# EAGLE library part RPI2-HEADER (library KS Proto)
Device for Raspberry Pi 2 board created by www.element14.com More information and support community is available at http://www.element14.com/community/community/raspberry-pi/raspberrypi2
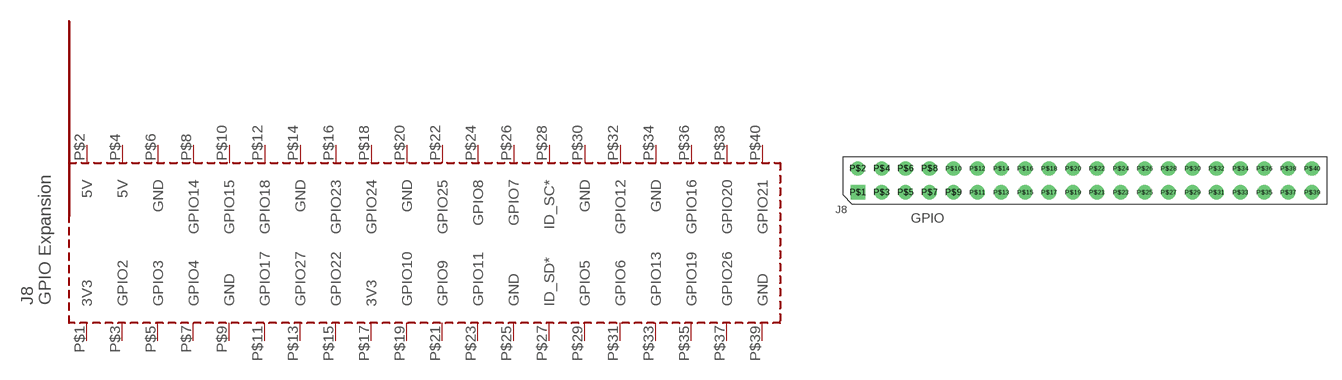
[diagram p6: symbol with the pads of RPI2-HEADER; footprint RPI2-HEADER]

Designator prefix PCB

## RPI2-HEADER  [RPI2-HEADER]
P$1  3V3
P$2  5V
P$3  GPIO2
P$4  5V
P$5  GPIO3
P$6  GND
P$7  GPIO4
P$8  GPIO14
P$9  GND
P$10  GPIO15
P$11  GPIO17
P$12  GPIO18
P$13  GPIO27
P$14  GND
P$15  GPIO22
P$16  GPIO23
P$17  3V3
P$18  GPIO24
P$19  GPIO10
P$20  GND
P$21  GPIO9
P$22  GPIO25
P$23  GPIO11
P$24  GPIO8
P$25  GND
P$26  GPIO7
P$27  ID_SD*
P$28  ID_SC*
P$29  GPIO5
P$30  GND
P$31  GPIO6
P$32  GPIO12
P$33  GPIO13
P$34  GND
P$35  GPIO19
P$36  GPIO16
P$37  GPIO26
P$38  GPIO20
P$39  GND
P$40  GPIO21

## Footprint RPI2-HEADER (pad centres in mm)
Package for the Raspberry Pi 2 board created by www.elemenet14.com based on documented dimensions and board measurements. For more documentation, please visit http://www.raspberrypi.org/documentation/hardware/raspberrypi/
drill 1.016 square: P$1 7.1,4.24
drill 1.016: P$2 7.087,6.782; P$3 9.627,4.242; P$4 9.627,6.782; P$5 12.167,4.242; P$6 12.167,6.782; P$7 14.707,4.242; P$8 14.707,6.782; P$9 17.247,4.242; P$10 17.247,6.782; P$11 19.787,4.242; P$12 19.787,6.782; P$13 22.327,4.242; P$14 22.327,6.782; P$15 24.867,4.242; P$16 24.867,6.782; P$17 27.407,4.242; P$18 27.407,6.782; P$19 29.947,4.242; P$20 29.947,6.782; P$21 32.487,4.242; P$22 32.487,6.782; P$23 35.027,4.242; P$24 35.027,6.782; P$25 37.567,4.242; P$26 37.567,6.782; P$27 40.107,4.242; P$28 40.107,6.782; P$29 42.647,4.242; P$30 42.647,6.782; P$31 45.187,4.242; P$32 45.187,6.782; P$33 47.727,4.242; P$34 47.727,6.782; P$35 50.267,4.242; P$36 50.267,6.782; P$37 52.807,4.242; P$38 52.807,6.782; P$39 55.347,4.242; P$40 55.347,6.782